# Altium footprint library 7SegDisplay.PcbLib: 1 footprints
Each footprint in its own frame and in the unit in brackets; x right, y up, seen from the top. Pads: shape width x height; smd on the part's side, far side on the other; paste and mask are expansions set on the pad; w line width, h text height; cw(c..) or ccw(c..) is an arc to the next point about the centre after c.
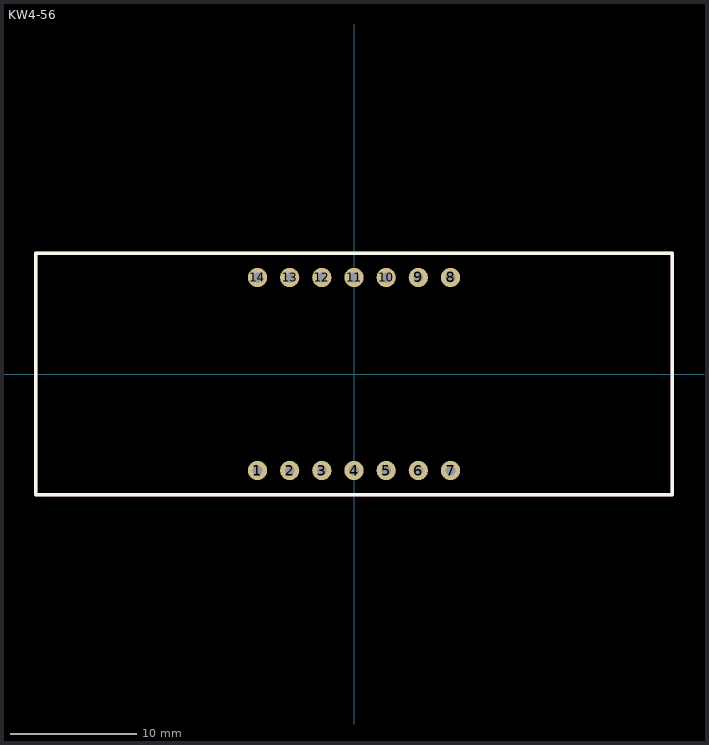
[diagram p0: the footprint, top view; thin cyan lines are the x and y axes]

## KW4-56 [mil] "Lucky Light 4-Digit 7 segment display 0.56\" digit height"
pads (14):
  round 60 hole 30 unplated: 1(-300,-300) 2(-200,-300) 3(-100,-300) 4(0,-300) 5(100,-300) 6(200,-300) 7(300,-300) 8(300,300) 9(200,300) 10(100,300) 11(0,300) 12(-100,300) 13(-200,300) 14(-300,300)
Top Overlay:
  lines w10: -989,-375 989,-375 989,375 -989,375 -989,-375
Mechanical 1:
  lines w10: -989,-375 989,-375 989,375 -989,375 -989,-375